# EAGLE library part LPC2214 (library Traficon)
16/32-bit ARM microcontrollers; 256 kB ISP/IAP Flash, 16kB RAM with 10-bit ADC and external memory interface
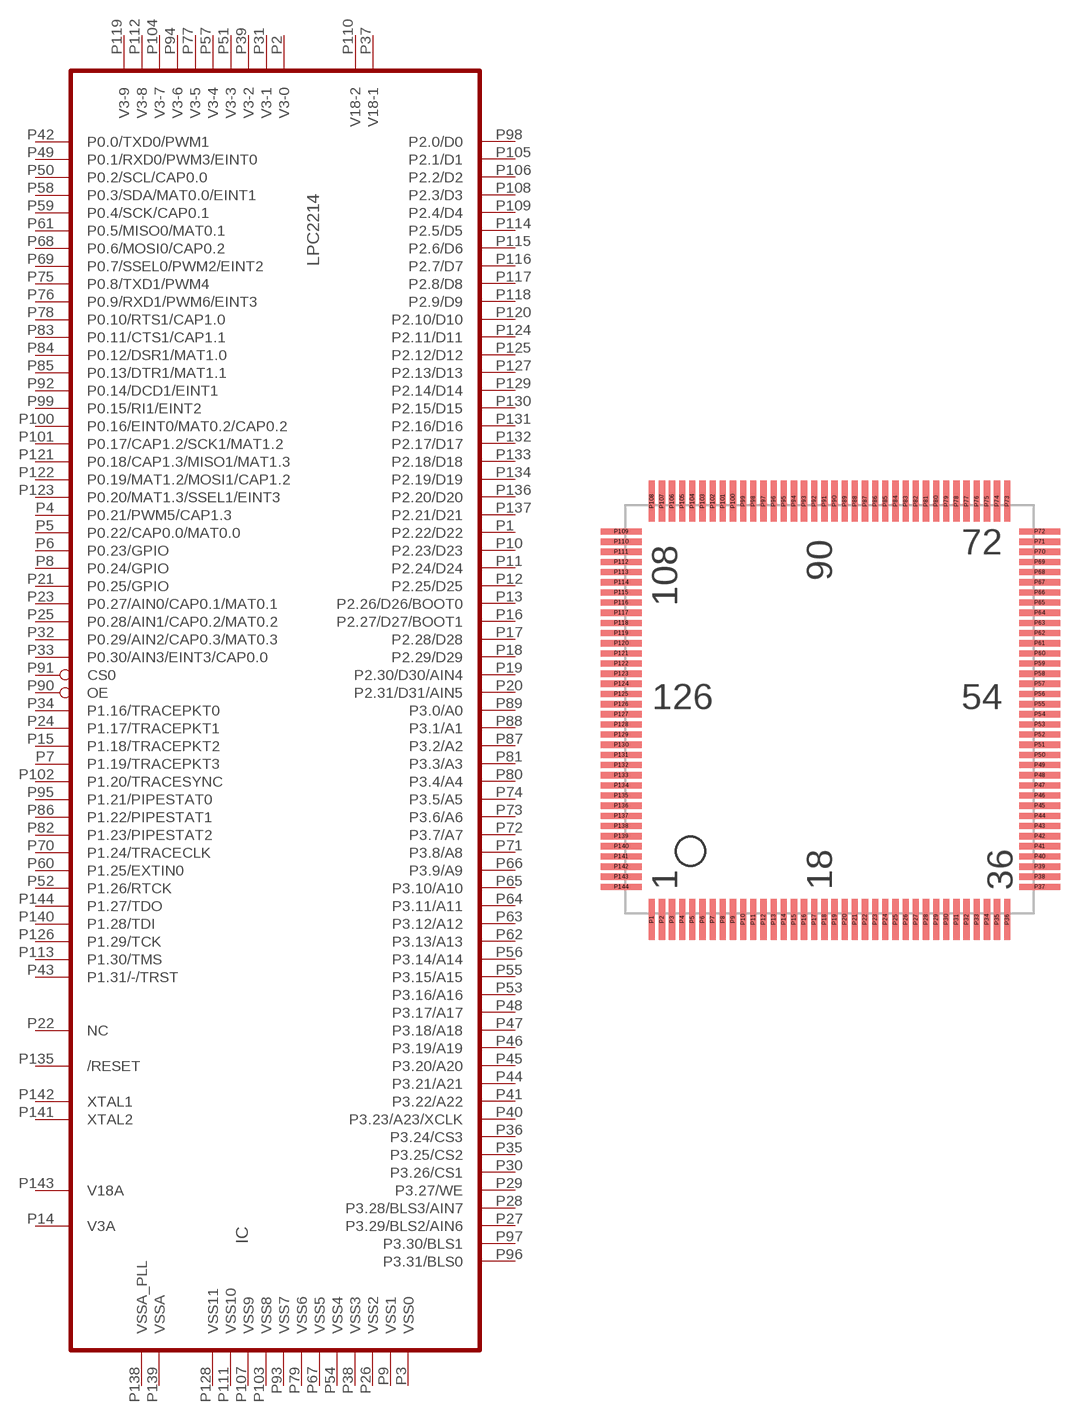
[diagram p27: symbol with the pads of LQFP144; footprint LQFP144]

Designator prefix IC

## LPC2214  [LQFP144]
P1  P2.22/D22
P2  V3-0  pas
P3  VSS0  pas
P4  P0.21/PWM5/CAP1.3
P5  P0.22/CAP0.0/MAT0.0
P6  P0.23/GPIO
P7  P1.19/TRACEPKT3
P8  P0.24/GPIO
P9  VSS1  pas
P10  P2.23/D23
P11  P2.24/D24
P12  P2.25/D25
P13  P2.26/D26/BOOT0
P14  V3A  pas
P15  P1.18/TRACEPKT2
P16  P2.27/D27/BOOT1
P17  P2.28/D28
P18  P2.29/D29
P19  P2.30/D30/AIN4
P20  P2.31/D31/AIN5
P21  P0.25/GPIO
P22  NC  nc
P23  P0.27/AIN0/CAP0.1/MAT0.1
P24  P1.17/TRACEPKT1
P25  P0.28/AIN1/CAP0.2/MAT0.2
P26  VSS2  pas
P27  P3.29/BLS2/AIN6
P28  P3.28/BLS3/AIN7
P29  P3.27/WE
P30  P3.26/CS1
P31  V3-1  pas
P32  P0.29/AIN2/CAP0.3/MAT0.3
P33  P0.30/AIN3/EINT3/CAP0.0
P34  P1.16/TRACEPKT0
P35  P3.25/CS2
P36  P3.24/CS3
P37  V18-1  pas
P38  VSS3  pas
P39  V3-2  pas
P40  P3.23/A23/XCLK
P41  P3.22/A22
P42  P0.0/TXD0/PWM1
P43  P1.31/-/TRST
P44  P3.21/A21
P45  P3.20/A20
P46  P3.19/A19
P47  P3.18/A18
P48  P3.17/A17
P49  P0.1/RXD0/PWM3/EINT0
P50  P0.2/SCL/CAP0.0
P51  V3-3  pas
P52  P1.26/RTCK
P53  P3.16/A16
P54  VSS4  pas
P55  P3.15/A15
P56  P3.14/A14
P57  V3-4  pas
P58  P0.3/SDA/MAT0.0/EINT1
P59  P0.4/SCK/CAP0.1
P60  P1.25/EXTIN0
P61  P0.5/MISO0/MAT0.1
P62  P3.13/A13
P63  P3.12/A12
P64  P3.11/A11
P65  P3.10/A10
P66  P3.9/A9
P67  VSS5  pas
P68  P0.6/MOSI0/CAP0.2
P69  P0.7/SSEL0/PWM2/EINT2
P70  P1.24/TRACECLK
P71  P3.8/A8
P72  P3.7/A7
P73  P3.6/A6
P74  P3.5/A5
P75  P0.8/TXD1/PWM4
P76  P0.9/RXD1/PWM6/EINT3
P77  V3-5  pas
P78  P0.10/RTS1/CAP1.0
P79  VSS6  pas
P80  P3.4/A4
P81  P3.3/A3
P82  P1.23/PIPESTAT2
P83  P0.11/CTS1/CAP1.1
P84  P0.12/DSR1/MAT1.0
P85  P0.13/DTR1/MAT1.1
P86  P1.22/PIPESTAT1
P87  P3.2/A2
P88  P3.1/A1
P89  P3.0/A0
P90  OE  in
P91  CS0  in
P92  P0.14/DCD1/EINT1
P93  VSS7  pas
P94  V3-6  pas
P95  P1.21/PIPESTAT0
P96  P3.31/BLS0
P97  P3.30/BLS1
P98  P2.0/D0
P99  P0.15/RI1/EINT2
P100  P0.16/EINT0/MAT0.2/CAP0.2
P101  P0.17/CAP1.2/SCK1/MAT1.2
P102  P1.20/TRACESYNC
P103  VSS8  pas
P104  V3-7  pas
P105  P2.1/D1
P106  P2.2/D2
P107  VSS9  pas
P108  P2.3/D3
P109  P2.4/D4
P110  V18-2  pas
P111  VSS10  pas
P112  V3-8  pas
P113  P1.30/TMS
P114  P2.5/D5
P115  P2.6/D6
P116  P2.7/D7
P117  P2.8/D8
P118  P2.9/D9
P119  V3-9  pas
P120  P2.10/D10
P121  P0.18/CAP1.3/MISO1/MAT1.3
P122  P0.19/MAT1.2/MOSI1/CAP1.2
P123  P0.20/MAT1.3/SSEL1/EINT3
P124  P2.11/D11
P125  P2.12/D12
P126  P1.29/TCK
P127  P2.13/D13
P128  VSS11  pas
P129  P2.14/D14
P130  P2.15/D15
P131  P2.16/D16
P132  P2.17/D17
P133  P2.18/D18
P134  P2.19/D19
P135  /RESET  in
P136  P2.20/D20
P137  P2.21/D21
P138  VSSA_PLL  pas
P139  VSSA  pas
P140  P1.28/TDI
P141  XTAL2  out
P142  XTAL1  in
P143  V18A  pas
P144  P1.27/TDO

## Footprint LQFP144 (pad centres in mm)
smd 0.305 x 2: P1 -8.89,-10.34; P2 -8.39,-10.34; P3 -7.89,-10.34; P4 -7.39,-10.34; P5 -6.89,-10.34; P6 -6.39,-10.34; P7 -5.89,-10.34; P8 -5.39,-10.34; P9 -4.89,-10.34; P10 -4.39,-10.34; P11 -3.89,-10.34; P12 -3.39,-10.34; P13 -2.89,-10.34; P14 -2.39,-10.34; P15 -1.89,-10.34; P16 -1.39,-10.34; P17 -0.89,-10.34; P18 -0.39,-10.34; P19 0.11,-10.34; P20 0.61,-10.34; P21 1.11,-10.34; P22 1.61,-10.34; P23 2.11,-10.34; P24 2.61,-10.34; P25 3.11,-10.34; P26 3.61,-10.34; P27 4.11,-10.34; P28 4.61,-10.34; P29 5.11,-10.34; P30 5.61,-10.34; P31 6.11,-10.34; P32 6.61,-10.34; P33 7.11,-10.34; P34 7.61,-10.34; P35 8.11,-10.34; P36 8.61,-10.34; P73 8.61,10.26; P74 8.11,10.26; P75 7.61,10.26; P76 7.11,10.26; P77 6.61,10.26; P78 6.11,10.26; P79 5.61,10.26; P80 5.11,10.26; P81 4.61,10.26; P82 4.11,10.26; P83 3.61,10.26; P84 3.11,10.26; P85 2.61,10.26; P86 2.11,10.26; P87 1.61,10.26; P88 1.11,10.26; P89 0.61,10.26; P90 0.11,10.26; P91 -0.39,10.26; P92 -0.89,10.26; P93 -1.39,10.26; P94 -1.89,10.26; P95 -2.39,10.26; P96 -2.89,10.26; P97 -3.39,10.26; P98 -3.89,10.26; P99 -4.39,10.26; P100 -4.89,10.26; P101 -5.39,10.26; P102 -5.89,10.26; P103 -6.39,10.26; P104 -6.89,10.26; P105 -7.39,10.26; P106 -7.89,10.26; P107 -8.39,10.26; P108 -8.89,10.26
smd 2 x 0.305: P37 10.21,-8.74; P38 10.21,-8.24; P39 10.21,-7.74; P40 10.21,-7.24; P41 10.21,-6.74; P42 10.21,-6.24; P43 10.21,-5.74; P44 10.21,-5.24; P45 10.21,-4.74; P46 10.21,-4.24; P47 10.21,-3.74; P48 10.21,-3.24; P49 10.21,-2.74; P50 10.21,-2.24; P51 10.21,-1.74; P52 10.21,-1.24; P53 10.21,-0.74; P54 10.21,-0.24; P55 10.21,0.26; P56 10.21,0.76; P57 10.21,1.26; P58 10.21,1.76; P59 10.21,2.26; P60 10.21,2.76; P61 10.21,3.26; P62 10.21,3.76; P63 10.21,4.26; P64 10.21,4.76; P65 10.21,5.26; P66 10.21,5.76; P67 10.21,6.26; P68 10.21,6.76; P69 10.21,7.26; P70 10.21,7.76; P71 10.21,8.26; P72 10.21,8.76; P109 -10.39,8.76; P110 -10.39,8.26; P111 -10.39,7.76; P112 -10.39,7.26; P113 -10.39,6.76; P114 -10.39,6.26; P115 -10.39,5.76; P116 -10.39,5.26; P117 -10.39,4.76; P118 -10.39,4.26; P119 -10.39,3.76; P120 -10.39,3.26; P121 -10.39,2.76; P122 -10.39,2.26; P123 -10.39,1.76; P124 -10.39,1.26; P125 -10.39,0.76; P126 -10.39,0.26; P127 -10.39,-0.24; P128 -10.39,-0.74; P129 -10.39,-1.24; P130 -10.39,-1.74; P131 -10.39,-2.24; P132 -10.39,-2.74; P133 -10.39,-3.24; P134 -10.39,-3.74; P135 -10.39,-4.24; P136 -10.39,-4.74; P137 -10.39,-5.24; P138 -10.39,-5.74; P139 -10.39,-6.24; P140 -10.39,-6.74; P141 -10.39,-7.24; P142 -10.39,-7.74; P143 -10.39,-8.24; P144 -10.39,-8.74